# Altium schematic symbol library UmbilicalBoardV2.SCHLIB: 44 symbols
Pins are listed as number, name and electrical type; pins without a type are passive.

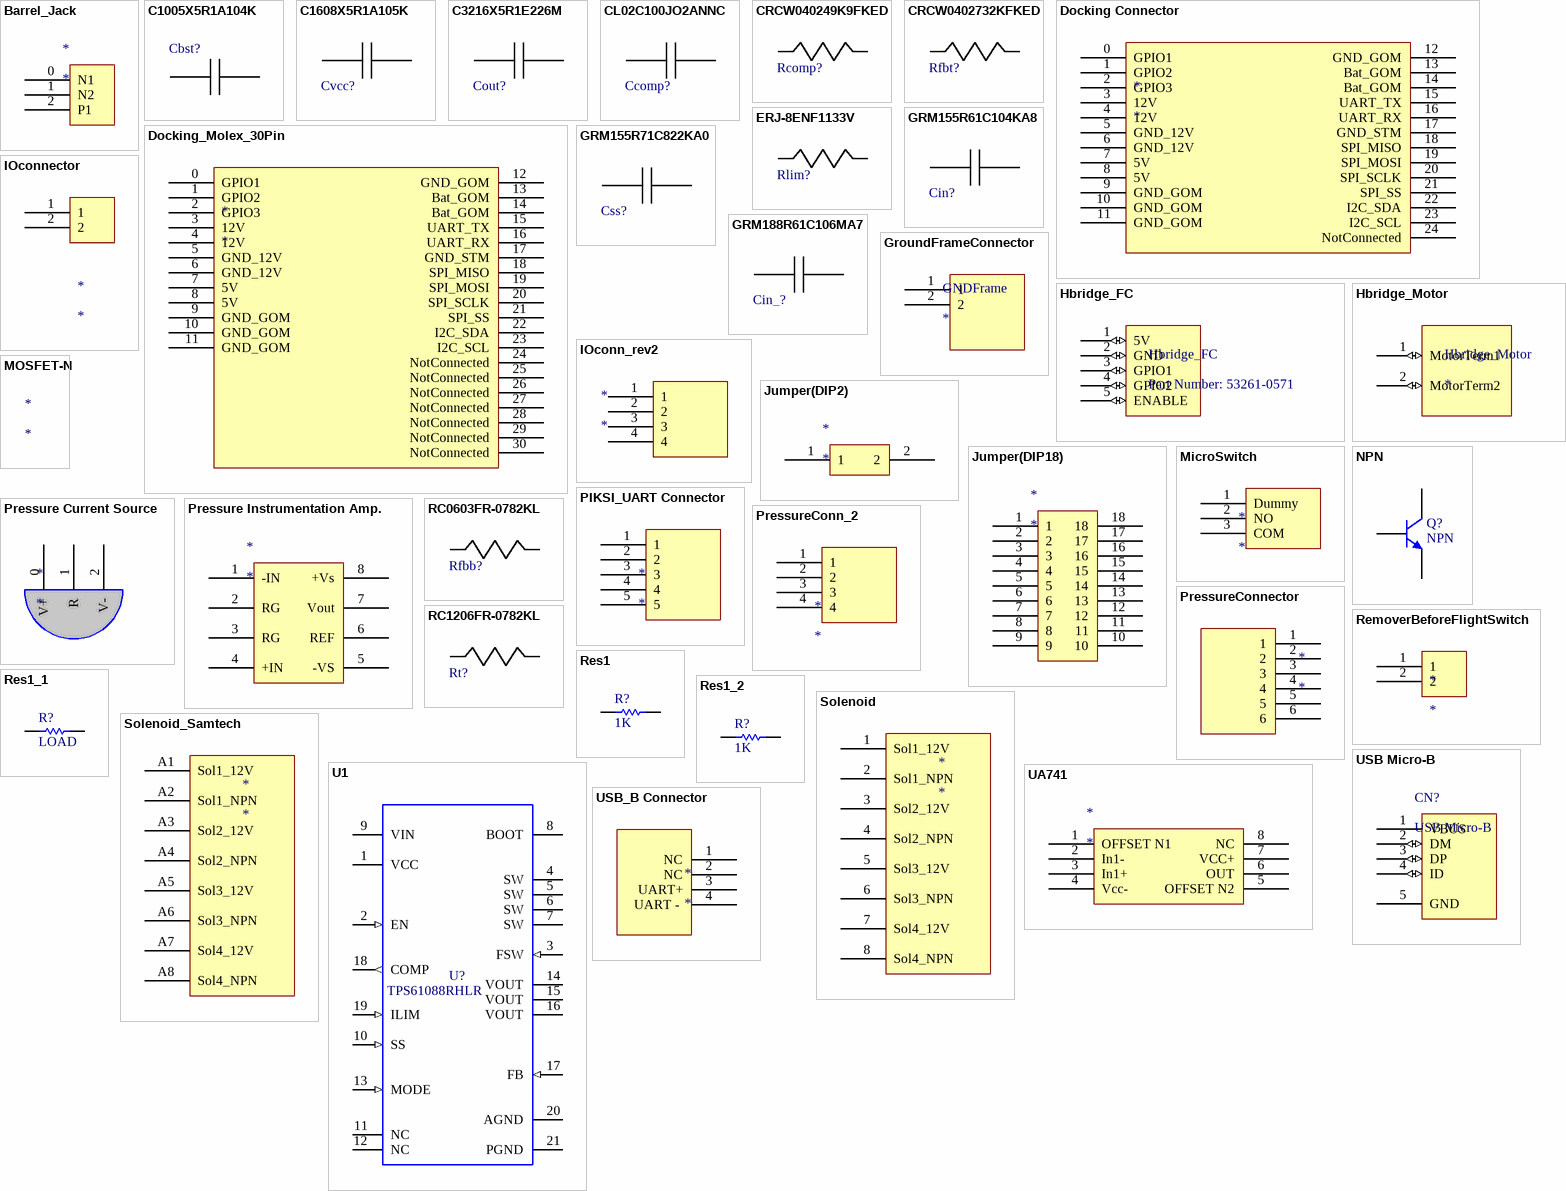
[diagram p0: symbols Barrel_Jack to USB_B Connector]

## Barrel_Jack
designator *
footprint Barrel_Jack (KLDX-0202-B)
pins: 0 N1, 1 N2, 2 P1

## C1005X5R1A104K
designator Cbst?  (value not drawn)
Imported; Vendor: TDK; Value: 100nF; Manufacturer_Part_Number: C1005X5R1A104K; RefDes: RefDes; TYPE: TYPE
footprint 1005
pins: 1, 2

## C1608X5R1A105K
designator Cvcc?  (value not drawn)
Imported; Vendor: TDK; Value: 1uF; Manufacturer_Part_Number: C1608X5R1A105K; RefDes: RefDes; TYPE: TYPE
footprint 1608
pins: 1, 2

## C3216X5R1E226M
designator Cout?  (value not drawn)
Imported; Vendor: TDK; Value: 22uF; Manufacturer_Part_Number: C3216X5R1E226M; RefDes: RefDes; TYPE: TYPE
footprint 1206
footprint 1005
pins: 1, 2

## CL02C100JO2ANNC
designator Ccomp?  (value not drawn)
Imported; Vendor: Samsung Electro-Mechanics; Value: 10pF; Manufacturer_Part_Number: CL02C100JO2ANNC; RefDes: RefDes; TYPE: TYPE
footprint 01005
pins: 1, 2

## CRCW040249K9FKED
designator Rcomp?  (value not drawn)
Imported; Res_ohm: 49900; Power_W: 0.063; PartNumber: CRCW040249K9FKED; RefDes: RefDes; TYPE: TYPE; Value: Value
footprint 0402
pins: 1, 2

## CRCW0402732KFKED
designator Rfbt?  (value not drawn)
Imported; Vendor: Vishay-Dale; Value: 732000; Manufacturer_Part_Number: CRCW0402732KFKED; RefDes: RefDes; TYPE: TYPE
footprint 0402
pins: 1, 2

## Docking Connector
designator *
501571-3007
footprint New_Docking (NK-2D2-025-228-0000)
pins: 0 GPIO1, 1 GPIO2, 2 GPIO3, 3 12V, 4 12V, 5 GND_12V "from 12V supply", 6 GND_12V "from 12V supply", 7 5V, 8 5V, 9 GND_GOM "from GOM Space EPU", 10 GND_GOM "from GOM Space EPU", 11 GND_GOM "from GOM Space EPU", 12 GND_GOM "from GOM Space EPU", 13 Bat_GOM "Battery Voltage from GOM Space EPU", 14 Bat_GOM "Battery Voltage from GOM Space EPU", 15 UART_TX, 16 UART_RX, 17 GND_STM "from STM", 18 SPI_MISO, 19 SPI_MOSI, 20 SPI_SCLK, 21 SPI_SS, 22 I2C_SDA, 23 I2C_SCL, 24 NotConnected

## Docking_Molex_30Pin
designator *
24 Pin Connector
footprint Docking_Molex_30Pin (501571-3007); pin to pad 0>A1 1>A2 2>A3 3>A4 4>A5 5>A6 6>A7 7>A8 8>A9 9>A10 10>A11 11>A12 12>A13 13>A14 14>A15 15>A16 16>A17 17>A18 18>A19 19>A20 20>A21 21>A22 22>A23 23>A24 24>A25
pins: 0 GPIO1, 1 GPIO2, 2 GPIO3, 3 12V, 4 12V, 5 GND_12V "from 12V supply", 6 GND_12V "from 12V supply", 7 5V, 8 5V, 9 GND_GOM "from GOM Space EPU", 10 GND_GOM "from GOM Space EPU", 11 GND_GOM "from GOM Space EPU", 12 GND_GOM "from GOM Space EPU", 13 Bat_GOM "Battery Voltage from GOM Space EPU", 14 Bat_GOM "Battery Voltage from GOM Space EPU", 15 UART_TX, 16 UART_RX, 17 GND_STM "from STM", 18 SPI_MISO, 19 SPI_MOSI, 20 SPI_SCLK, 21 SPI_SS, 22 I2C_SDA, 23 I2C_SCL, 24 NotConnected, 25 NotConnected, 26 NotConnected, 27 NotConnected, 28 NotConnected, 29 NotConnected, 30 NotConnected

## ERJ-8ENF1133V
designator Rlim?  (value not drawn)
Imported; Vendor: Panasonic; Value: 113000; Manufacturer_Part_Number: ERJ-8ENF1133V; RefDes: RefDes; TYPE: TYPE
footprint 1206
pins: 1, 2

## GRM155R61C104KA8
designator Cin?  (value not drawn)
Imported; Manufacturer_Part_Number: GRM155R61C104KA88D; Vendor: MuRata; Value: 100nF; RefDes: RefDes; TYPE: TYPE
footprint 0402
pins: 1, 2

## GRM155R71C822KA0
designator Css?  (value not drawn)
Imported; Manufacturer_Part_Number: GRM155R71C822KA01D; Vendor: MuRata; Value: 8.2nF; RefDes: RefDes; TYPE: TYPE
footprint 0402
pins: 1, 2

## GRM188R61C106MA7
designator Cin_?  (value not drawn)
Imported; Manufacturer_Part_Number: GRM188R61C106MA73D; Cap: 1.0E-5; ESR: 0; VDC: 16; Vendor: Murata; Value: 10uF; IRMS: 0; RefDes: RefDes; TYPE: TYPE
footprint 0603
pins: 1, 2

## GroundFrameConnector
designator GNDFrame
53048-0210 Molex Picoblade
footprint FrameGND (Molex Picoblade Part Number: 53048-0210)
pins: 1, 2

## Hbridge_FC
designator Hbridge_FC, comment Part Number: 53261-0571
pins: 1 5V (io), 2 GND (io), 3 GPIO1 (io), 4 GPIO2 (io), 5 ENABLE (io)

## Hbridge_Motor
designator Hbridge_Motor
Part Number: 53261-0271
pins: 1 MotorTerm1 (io), 2 MotorTerm2 (io)

## IOconn_rev2
designator *
Part Number: 53261-0471
footprint IOConn_Rev2 (Molex 4 Pin Picoblade. Part # 53261-0471)
pins: 1, 2, 3, 4

## IOconnector
designator *
Part Number: 172310-1102
footprint IOconnector (Part Number: 172310-1102)
pins: 1, 2

## Jumper(DIP2)
designator *
footprint Jumper(DIP2) (S1012E-02-ND (Pin), 3M9580-ND (Jumper))
pins: 1, 2

## Jumper(DIP18)
designator *
footprint Jumper(DIP18)
pins: 1, 2, 3, 4, 5, 6, 7, 8, 9, 10, 11, 12, 13, 14, 15, 16, 17, 18

## MicroSwitch
designator *
Omron Electronics Inc-EMC Div D2FS-FL-N-A1
footprint MicroSwitch_3pin (Omron Electronics Inc-EMC Div D2FS-FL-N-A1)
pins: 1 Dummy, 2 NO, 3 COM

## MOSFET-N
designator *

## NPN
designator Q?
NPN Bipolar Transistor; Published: 8-Jun-2000; LatestRevisionDate: 17-Jul-2002; LatestRevisionNote: Re-released for DXP Platform.; PackageReference: TO-226-AA; Publisher: Altium Limited; PackageDescription: TO, Flat Index; 3 In-Line, Axial Leads; Body Dia. 4.8mm; Leads 0.55 x 0.51 mm (max); Code_JEDEC: TO-226-AA
footprint TO-226-AA (TO, Flat Index; 3 In-Line, Axial Leads; Body Dia. 4.8mm; Leads 0.55 x 0.51 mm (max))
simulation model NPN
signal-integrity model NPN
footprint TO-92 (TO, Flat Index; 3 In-Line, Axial Leads; Body Dia. 4.6mm; Leads 0.41 x 0.39 mm (max))
pins: 1 C, 2 B, 3 E

## PIKSI_UART Connector
designator *
Molex Picoblade 53261-0571
footprint Molex Picoblade 5 Pin (Molex Picoblade Header, SMT, Right Angle)
pins: 1, 2, 3, 4, 5

## Pressure Current Source
designator *
footprint Pressure Current Source (LM234Z-3/NOPB (TO-92 package))
pins: 0 V+, 1 R, 2 V-

## Pressure Instrumentation Amp.
designator *
footprint Pressure Instrumentation Amp. (INA826AIDGKR)
pins: 1 -IN, 2 RG, 3 RG, 4 +IN, 5 -VS, 6 REF, 7 Vout, 8 +Vs

## PressureConn_2
designator *
footprint PressCon_2 (Molex Picoblade 4 pin (for the second pressure conn) Part # 53261-0471)
pins: 1, 2, 3, 4

## PressureConnector
designator *
Molex 70553-0005
footprint Pressure Connector (53261-0671)
pins: 1, 2, 3, 4, 5, 6

## RC0603FR-0782KL
designator Rfbb?  (value not drawn)
Imported; Vendor: Yageo America; Value: 82000; Manufacturer_Part_Number: RC0603FR-0782KL; RefDes: RefDes; TYPE: TYPE
footprint 0603
footprint 0603
pins: 1, 2

## RC1206FR-0782KL
designator Rt?  (value not drawn)
Imported; Vendor: Yageo America; Value: 82000; Manufacturer_Part_Number: RC1206FR-0782KL; RefDes: RefDes; TYPE: TYPE
footprint 1206
pins: 1, 2

## RemoverBeforeFlightSwitch
designator *
53048-0210 Molex Picoblade
footprint RemoverBeforeFlight Switch (Molex Picoblade Part Number: 53048-0210)
pins: 1, 2

## Res1
designator R?  value 1K  (hidden comment: Res1)
Resistor; Published: 8-Jun-2000; LatestRevisionDate: 17-Jul-2002; LatestRevisionNote: Re-released for DXP Platform.; PackageReference: AXIAL-0.3; Publisher: Altium Limited; PackageDescription: Axial Device, Thru-Hole; 2 Leads; 0.3 in Pin Spacing
footprint AXIAL-0.3 (Axial Device, Thru-Hole; 2 Leads; 0.3 in Pin Spacing)
simulation model RESISTOR (Resistor)
signal-integrity model Res
footprint 0402
footprint 0402
pins: 1, 2

## Res1_1
designator R?, comment LOAD
Resistor; Value: 1K; Published: 8-Jun-2000; LatestRevisionDate: 17-Jul-2002; LatestRevisionNote: Re-released for DXP Platform.; PackageReference: AXIAL-0.3; Publisher: Altium Limited; PackageDescription: Axial Device, Thru-Hole; 2 Leads; 0.3 in Pin Spacing
footprint AXIAL-0.3 (Axial Device, Thru-Hole; 2 Leads; 0.3 in Pin Spacing)
simulation model RESISTOR (Resistor)
signal-integrity model Res
pins: 1, 2

## Res1_2
designator R?, comment value 1K  (hidden comment: Res1)
Resistor; Published: 8-Jun-2000; LatestRevisionDate: 17-Jul-2002; LatestRevisionNote: Re-released for DXP Platform.; PackageReference: AXIAL-0.3; Publisher: Altium Limited; PackageDescription: Axial Device, Thru-Hole; 2 Leads; 0.3 in Pin Spacing
footprint AXIAL-0.3 (Axial Device, Thru-Hole; 2 Leads; 0.3 in Pin Spacing)
simulation model RESISTOR (Resistor)
signal-integrity model Res
footprint 0402
pins: 1, 2

## Solenoid
designator *
Connector for 4 Solenoids
footprint Solenoid (New Solenoid 8 Pin. Part Number: 172310-1108)
pins: 1 Sol1_12V, 2 Sol1_NPN, 3 Sol2_12V, 4 Sol2_NPN, 5 Sol3_12V, 6 Sol3_NPN, 7 Sol4_12V, 8 Sol4_NPN

## Solenoid_Samtech
designator *
Solenoid Samtech Connector
footprint Solenoid_Samtech (T2M-105-01-L-D-SM-WT)
pins: A1 Sol1_12V, A2 Sol1_NPN, A3 Sol2_12V, A4 Sol2_NPN, A5 Sol3_12V, A6 Sol3_NPN, A7 Sol4_12V, A8 Sol4_NPN

## U1
designator U?, comment TPS61088RHLR
Manufacturer Name: Texas Instruments; Value: UNLISTED; Manufacturer Part Number: TPS61088RHLR; PackageReference: TPS61088RHLR
footprint RHL0020A
pins: 1 VCC (power), 2 EN (in), 3 FSW (in), 4 SW (power), 5 SW (power), 6 SW (power), 7 SW (power), 8 BOOT (power), 9 VIN (power), 10 SS (in), 11 NC, 12 NC, 13 MODE (in), 14 VOUT (power), 15 VOUT (power), 16 VOUT (power), 17 FB (in), 18 COMP (out), 19 ILIM (in), 20 AGND (power), 21 PGND (power)

## UA741
designator *
UA741 SOIC package
footprint UA741
pins: 1 OFFSET N1, 2 In1-, 3 In1+, 4 Vcc-, 5 OFFSET N2, 6 OUT, 7 VCC+, 8 NC

## USB Micro-B
designator CN?
USB OTG Micro-B Connector
pins: 1 VBUS (power), 2 DM (io), 3 DP (io), 4 ID (io), 5 GND (power)

## USB_B Connector
designator *
footprint USB_B Connector (Footprint not found)
pins: 1 NC, 2 NC, 3 UART+, 4 UART - 

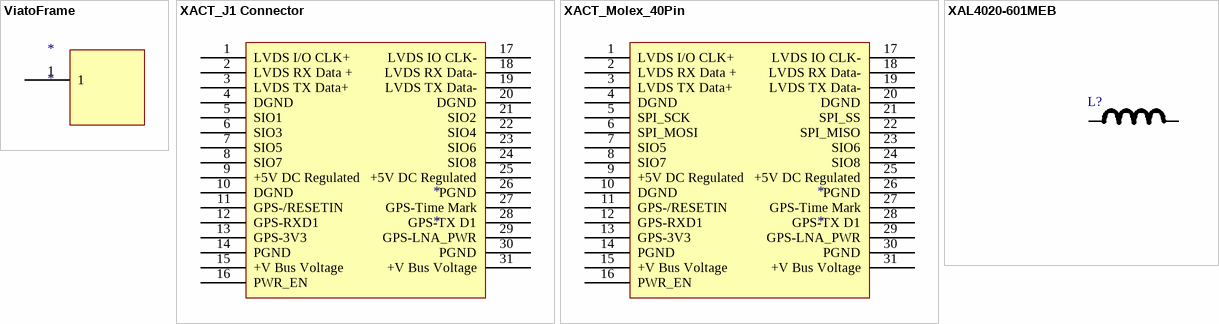
[diagram p1: symbols ViatoFrame to XAL4020-601MEB]

## ViatoFrame
designator *
footprint ViatoFrame
pins: 1

## XACT_J1 Connector
designator *
31 Pin Airborn Nano Connector
footprint Airborn Nano (Footprint not found)
footprint Airborn Nano (Footprint not found)
pins: 1 LVDS I/O CLK+, 2 LVDS RX Data +, 3 LVDS TX Data+, 4 DGND "+5 VDC Return", 5 SIO1, 6 SIO3, 7 SIO5, 8 SIO7, 9 +5V DC Regulated, 10 DGND "+5 V DC Return", 11 GPS-/RESETIN, 12 GPS-RXD1, 13 GPS-3V3 "3.3V power to GPS", 14 PGND "12V return", 15 +V Bus Voltage "+12 V Unregulated", 16 PWR_EN "Input, 3.3V max", 17 LVDS IO CLK-, 18 LVDS RX Data-, 19 LVDS TX Data-, 20 DGND "+5V DC Return", 21 SIO2, 22 SIO4, 23 SIO6, 24 SIO8, 25 +5V DC Regulated, 26 PGND "+12V return", 27 GPS-Time Mark, 28 GPS-TX D1, 29 GPS-LNA_PWR "12V Unregulated to GPS", 30 PGND "+12V return", 31 +V Bus Voltage "+12 V Unregualated"

## XACT_Molex_40Pin
designator *
Part Number: 501571-4007
footprint XACT_Molex_40Pin (501571-4007); pin to pad 1>A1 2>A2 3>A3 4>A4 5>A5 6>A6 7>A7 8>A8 9>A9 10>A10 11>A11 12>A12 13>A13 14>A14 15>A15 16>A16 17>A17 18>A18 19>A19 20>A20 21>A21 22>A22 23>A23 24>A24 25>A25 26>A26 27>A27 28>A28 29>A29 30>A30 31>A31
pins: 1 LVDS I/O CLK+, 2 LVDS RX Data +, 3 LVDS TX Data+, 4 DGND "+5 VDC Return", 5 SPI_SCK, 6 SPI_MOSI, 7 SIO5, 8 SIO7, 9 +5V DC Regulated, 10 DGND "+5 V DC Return", 11 GPS-/RESETIN, 12 GPS-RXD1, 13 GPS-3V3 "3.3V power to GPS", 14 PGND "12V return", 15 +V Bus Voltage "+12 V Unregulated", 16 PWR_EN "Input, 3.3V max", 17 LVDS IO CLK-, 18 LVDS RX Data-, 19 LVDS TX Data-, 20 DGND "+5V DC Return", 21 SPI_SS, 22 SPI_MISO, 23 SIO6, 24 SIO8, 25 +5V DC Regulated, 26 PGND "+12V return", 27 GPS-Time Mark, 28 GPS-TX D1, 29 GPS-LNA_PWR "12V Unregulated to GPS", 30 PGND "+12V return", 31 +V Bus Voltage "+12 V Unregualated"

## XAL4020-601MEB
designator L?  (value not drawn)
Imported; Vendor: Coilcraft; Value: 600nH; Manufacturer_Part_Number: XAL4020-601MEB; RefDes: RefDes; TYPE: TYPE
footprint XAL4020
pins: 1, 2